# EAGLE library part ISL9110IRT7Z-T7A (library ISL9110IRT7Z-T7A)
Switching Voltage Regulators 1 2A SINGLE IND BUCK BOOST 3 3V 12LD Source: Datasheet <https://datasheet.datasheetarchive.com/originals/distributors/Datasheets-SFU4/DSASF4000-1643.pdf>
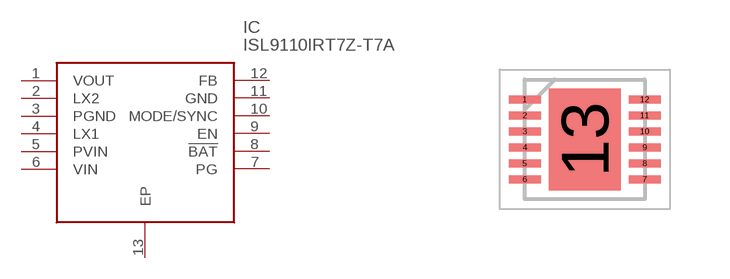
[diagram p0: symbol with the pads of SON40P300X300X75-13N; footprint SON40P300X300X75-13N]

Designator prefix IC

## ISL9110IRT7Z-T7A (Description: Switching Voltage Regulators 1 2A SINGLE IND BUCK BOOST 3 3V 12LD; Height: 0.75mm; Manufacturer_Name: Renesas Electronics; Manufacturer_Part_Number: ISL9110IRT7Z-T7A; Mouser_Part_Number: 968-ISL9110IRT7Z-T7A; Mouser_Price-Stock: https://www.mouser.co.uk/ProductDetail/Renesas-Intersil/ISL9110IRT7Z-T7A?qs=dAsayXGOMrujtMdmCjK0tg%3D%3D)  [SON40P300X300X75-13N]
1  VOUT
2  LX2
3  PGND
4  LX1
5  PVIN
6  VIN
7  PG
8  !BAT
9  EN
10  MODE/SYNC
11  GND
12  FB
13  EP

## Footprint SON40P300X300X75-13N (pad centres in mm)
ISL9110IRT7Z-T7A
smd 0.8 x 0.2: 1 -1.5,1; 2 -1.5,0.6; 3 -1.5,0.2; 4 -1.5,-0.2; 5 -1.5,-0.6; 6 -1.5,-1; 7 1.5,-1; 8 1.5,-0.6; 9 1.5,-0.2; 10 1.5,0.2; 11 1.5,0.6; 12 1.5,1
smd 1.8 x 2.55: 13 0,0